# EAGLE library part PIN08 (library DiscMM)
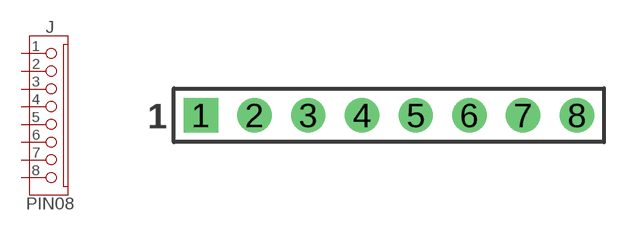
[diagram p0: symbol with the pads of PIN08; footprint PIN08]

Designator prefix J

## PIN08  [PIN08]
1  1
2  2
3  3
4  4
5  5
6  6
7  7
8  8

## Footprint PIN08 (pad centres in mm)
drill 1 pad 1.626 square: 1 -8.89,0
drill 1 pad 1.626: 2 -6.35,0; 3 -3.81,0; 4 -1.27,0; 5 1.27,0; 6 3.81,0; 7 6.35,0; 8 8.89,0